# Altium footprint library ZMBo Footprint Library.PcbLib: 50 footprints (part 3 of 4)
Each footprint in its own frame and in the unit in brackets; x right, y up, seen from the top. Pads: shape width x height; smd on the part's side, far side on the other; paste and mask are expansions set on the pad; w line width, h text height; cw(c..) or ccw(c..) is an arc to the next point about the centre after c.
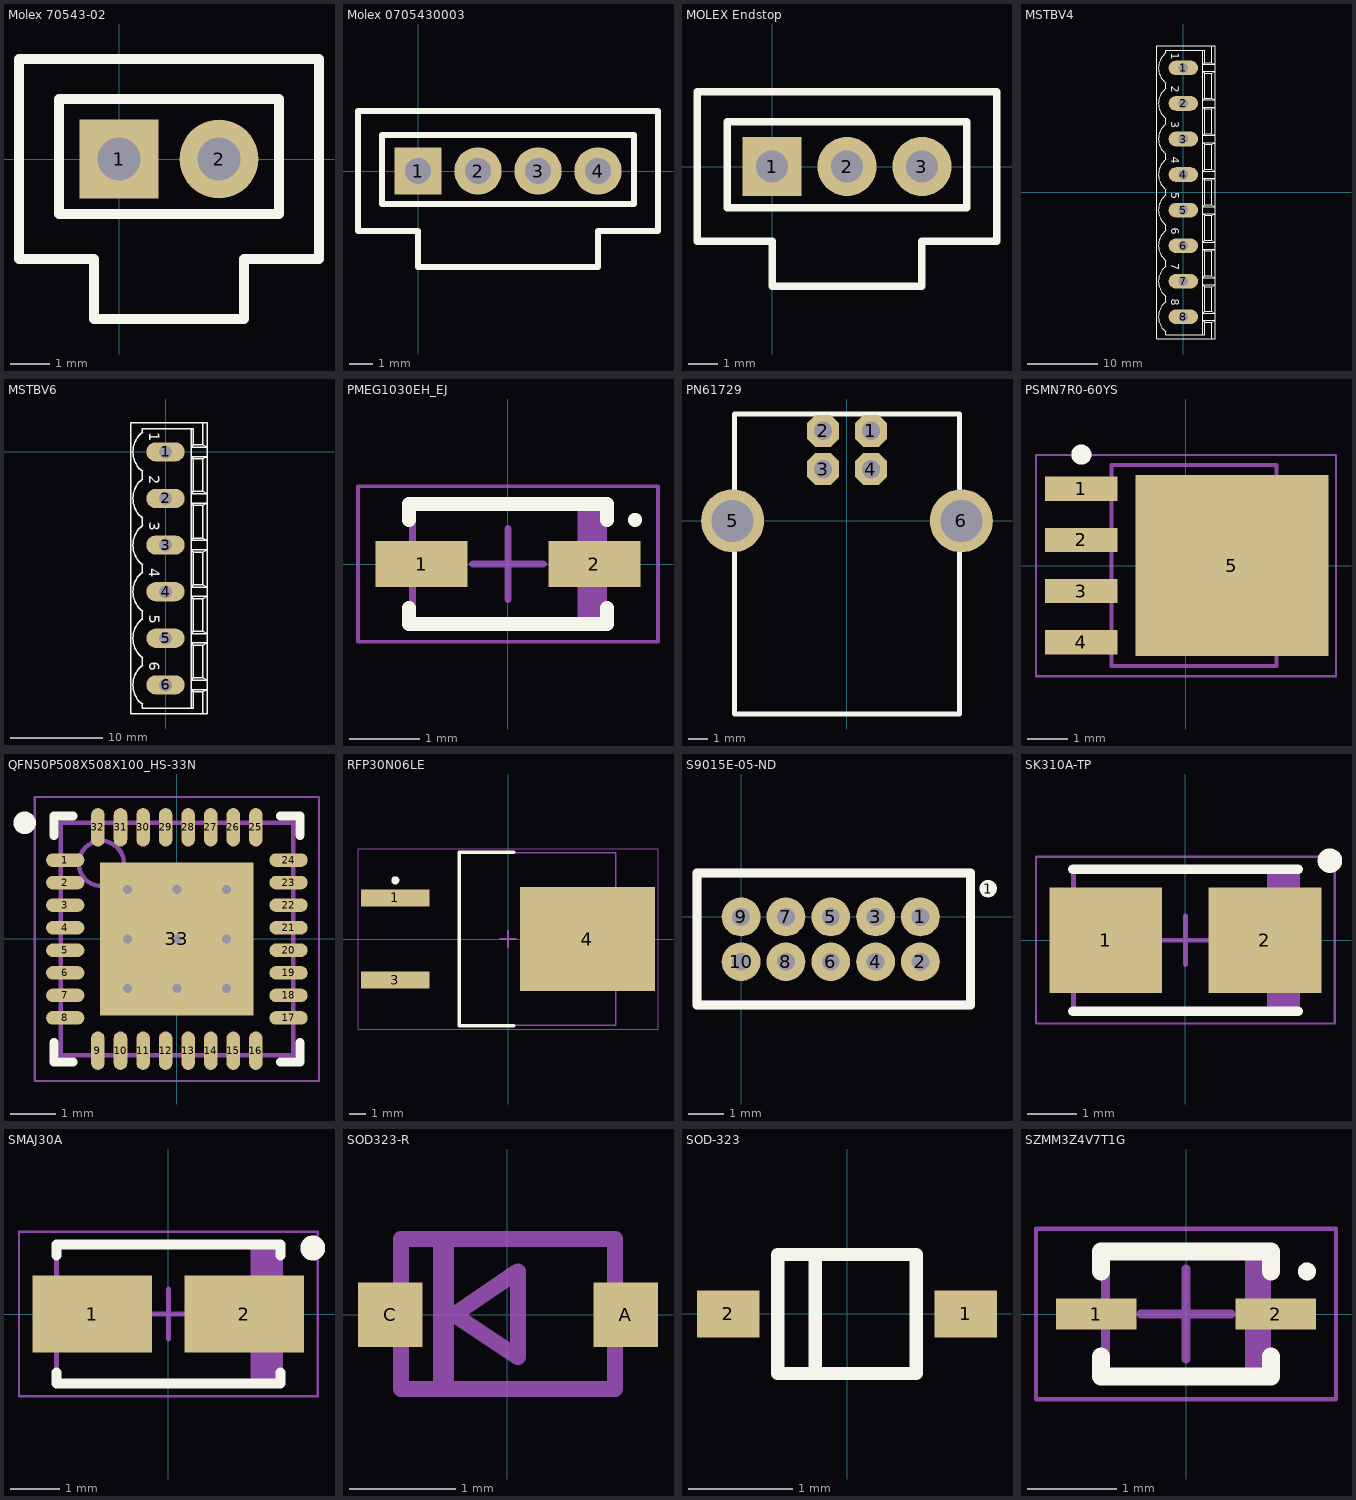
[diagram p2: the footprints below, top view; thin cyan lines are the x and y axes]

## Molex 70543-02 [mm]
pads (2):
  rect 2x2 hole 1.09: 1(0,0)
  round 2 hole 1.09: 2(2.54,0)
Top Overlay:
  lines w0.254: -2.54,-2.54 -2.54,2.54 5.08,2.54 5.08,-2.54 3.175,-2.54 3.175,-4.064 -0.635,-4.064 -0.635,-2.54 -2.54,-2.54 ; -1.524,-1.397 -1.524,-1.27 -1.524,1.524 4.064,1.524 4.064,-1.397 -1.397,-1.397 -1.524,-1.397

## Molex 0705430003 [mm] "4 pin connector"
pads (4):
  rect 2x2 hole 1.09: 1(0,0)
  round 2 hole 1.09: 2(2.54,0) 3(5.08,0) 4(7.62,0)
Top Overlay:
  lines w0.254: -2.54,-2.54 0,-2.54 0,-4.064 7.62,-4.064 7.62,-2.54 10.16,-2.54 10.16,2.54 -2.54,2.54 -2.54,-2.54 ; -1.524,-1.397 -1.397,-1.397 9.144,-1.397 9.144,1.524 -1.524,1.524 -1.524,-1.27 -1.524,-1.397

## MOLEX Endstop [mm]
pads (3):
  rect 2x2 hole 1.09: 1(0,0)
  round 2 hole 1.09: 2(2.54,0) 3(5.08,0)
Top Overlay:
  lines w0.254: -2.54,-2.54 0,-2.54 0,-4.064 5.08,-4.064 5.08,-2.54 7.62,-2.54 7.62,2.54 -2.54,2.54 -2.54,-2.54 ; -1.524,-1.397 -1.397,-1.397 6.604,-1.397 6.604,1.524 -1.524,1.524 -1.524,-1.27 -1.524,-1.397

## MSTBV4 [mil]
pads (8):
  oval 165x82.5 hole 55: 1(0,700) 2(0,500) 3(0,300) 4(0,100) 5(0,-100) 6(0,-300) 7(0,-500) 8(0,-700)
Top Overlay:
  drawing of 151 lines, arcs and shapes, not listed
  text "8" at -85,-600 h77.5
  text "7" at -85,-400 h77.5
  text "6" at -85,-200 h77.5
  text "5" at -85,0 h77.5
  text "1" at -85,785 h77.5
  text "2" at -85,600 h77.5
  text "3" at -85,400 h77.5
  text "4" at -85,200 h77.5
Mechanical 16:
  lines w6: -25,-725 -25,-675 ; -25,-725 25,-675 ; -25,-725 25,-725 ; -25,-675 25,-725 ; -25,-675 25,-675 ; -25,-525 -25,-475 ; -25,-525 25,-475 ; -25,-525 25,-525 ; -25,-475 25,-525 ; -25,-475 25,-475 ; -25,-325 25,-275 ; -25,-325 25,-325 ; -25,-325 -25,-275 ; -25,-275 25,-325 ; -25,-275 25,-275 ; -25,-125 25,-75 ; -25,-125 25,-125 ; -25,-125 -25,-75 ; -25,-75 25,-125 ; -25,-75 25,-75 ; -25,75 25,75 ; -25,75 25,125 ; -25,75 -25,125 ; -25,125 25,125 ; -25,125 25,75 ; -25,275 -25,325 ; -25,275 25,275 ; -25,275 25,325 ; -25,325 25,325 ; -25,325 25,275 ; -25,475 -25,525 ; -25,475 25,475 ; -25,475 25,525 ; -25,525 25,525 ; -25,525 25,475 ; -25,675 -25,725 ; -25,675 25,675 ; -25,675 25,725 ; -25,725 25,725 ; -25,725 25,675 ; 25,-725 25,-675 ; 25,-525 25,-475 ; 25,-325 25,-275 ; 25,-125 25,-75 ; 25,75 25,125 ; 25,275 25,325 ; 25,475 25,525 ; 25,675 25,725
3D body: height 472.44, standoff 0, extent -150,-825 180,825

## MSTBV6 [mil]
pads (6):
  oval 165x82.5 hole 55: 1(0,0) 2(0,-200) 3(0,-400) 4(0,-600) 5(0,-800) 6(0,-1000)
Top Overlay:
  lines w6: -100,-1083 -100,-1100 110,-1100 ; -100,-915 -100,-885 ; -100,-715 -100,-685 ; -100,-515 -100,-485 ; -100,-315 -100,-285 ; -100,-115 -100,-85 ; -100,83 -100,100 110,100 ; -98,-1084 cw(c-35,-1000) -140,-1000 cw(c-35,-1000) -98,-916 ; -98,-884 cw(c-35,-800) -140,-800 cw(c-35,-800) -98,-716 ; -98,-684 cw(c-35,-600) -140,-600 cw(c-35,-600) -98,-516 ; -98,-484 cw(c-35,-400) -140,-400 cw(c-35,-400) -98,-316 ; -98,-284 cw(c-35,-200) -140,-200 cw(c-35,-200) -98,-116 ; -98,-84 cw(c-35,0) -140,0 cw(c-35,0) -98,84 ; 110,-1100 120,-1100 120,-1030 ; 110,-1100 110,-1020 ; 110,-1020 120,-1030 ; 110,-1020 180,-1020 ; 110,-1020 110,-980 ; 110,-980 120,-970 ; 110,-980 180,-980 ; 110,-980 110,-820 ; 110,-820 120,-830 ; 110,-820 180,-820 ; 110,-820 110,-780 ; 110,-780 120,-770 ; 110,-780 180,-780 ; 110,-780 110,-620 ; 110,-620 120,-630 ; 110,-620 180,-620 ; 110,-620 110,-580 ; 110,-580 110,-420 ; 110,-580 180,-580 ; 110,-580 120,-570 ; 110,-420 110,-380 ; 110,-420 180,-420 ; 110,-420 120,-430 ; 110,-380 110,-220 ; 110,-380 180,-380 ; 110,-380 120,-370 ; 110,-220 110,-180 ; 110,-220 180,-220 ; 110,-220 120,-230 ; 110,-180 110,-20 ; 110,-180 180,-180 ; 110,-180 120,-170 ; 110,-20 110,20 ; 110,-20 180,-20 ; 110,-20 120,-30 ; 110,20 110,100 ; 110,20 180,20 ; 110,20 120,30 ; 110,100 120,100 120,30 ; 120,-1030 160,-1030 ; 120,-970 120,-830 ; 120,-970 160,-970 ; 120,-830 160,-830 ; 120,-770 160,-770 ; 120,-770 120,-630 ; 120,-630 160,-630 ; 120,-570 120,-430 ; 120,-570 160,-570 ; 120,-430 160,-430 ; 120,-370 160,-370 ; 120,-370 120,-230 ; 120,-230 160,-230 ; 120,-170 120,-30 ; 120,-170 160,-170 ; 120,-30 160,-30 ; 120,30 160,30 ; 160,-1125 -150,-1125 -150,-840 -150,125 160,125 ; 160,-1125 180,-1125 180,-1020 ; 160,-1125 160,-1030 ; 160,-1030 180,-1020 ; 160,-970 180,-980 ; 160,-970 160,-830 ; 160,-830 180,-820 ; 160,-770 180,-780 ; 160,-770 160,-630 ; 160,-630 180,-620 ; 160,-570 160,-430 ; 160,-570 180,-580 ; 160,-430 180,-420 ; 160,-370 160,-230 ; 160,-370 180,-380 ; 160,-230 180,-220 ; 160,-170 160,-30 ; 160,-170 180,-180 ; 160,-30 180,-20 ; 160,30 160,125 ; 160,30 180,20 ; 160,125 180,125 180,20 ; 180,-1020 180,-980 ; 180,-980 180,-820 ; 180,-820 180,-780 ; 180,-780 180,-620 ; 180,-620 180,-580 ; 180,-580 180,-420 ; 180,-420 180,-380 ; 180,-380 180,-220 ; 180,-220 180,-180 ; 180,-180 180,-20 ; 180,-20 180,20
  text "6" at -85,-900 h77.5
  text "5" at -85,-700 h77.5
  text "1" at -85,85 h77.5
  text "2" at -85,-100 h77.5
  text "3" at -85,-300 h77.5
  text "4" at -85,-500 h77.5
Mechanical 16:
  lines w6: -25,-1025 25,-975 ; -25,-1025 25,-1025 ; -25,-1025 -25,-975 ; -25,-975 25,-1025 ; -25,-975 25,-975 ; -25,-825 25,-775 ; -25,-825 25,-825 ; -25,-825 -25,-775 ; -25,-775 25,-825 ; -25,-775 25,-775 ; -25,-625 25,-625 ; -25,-625 25,-575 ; -25,-625 -25,-575 ; -25,-575 25,-575 ; -25,-575 25,-625 ; -25,-425 -25,-375 ; -25,-425 25,-425 ; -25,-425 25,-375 ; -25,-375 25,-375 ; -25,-375 25,-425 ; -25,-225 -25,-175 ; -25,-225 25,-225 ; -25,-225 25,-175 ; -25,-175 25,-175 ; -25,-175 25,-225 ; -25,-25 -25,25 ; -25,-25 25,-25 ; -25,-25 25,25 ; -25,25 25,25 ; -25,25 25,-25 ; 25,-1025 25,-975 ; 25,-825 25,-775 ; 25,-625 25,-575 ; 25,-425 25,-375 ; 25,-225 25,-175 ; 25,-25 25,25
3D body: height 472.44, standoff 0, extent -150,-1125 180,125

## PMEG1030EH_EJ [mm] "Molded Diode, 2-Leads, Body 2.60x1.60mm, IPC Medium Density"
height 1.2
pads (2):
  rect 1.3x0.65 smd: 1(-1.225,0) 2(1.225,0)
Top Overlay:
  circle w0.1: c1.8,0.625 r0.05
  lines w0.2: -1.4,-0.625 -1.4,-0.85 1.4,-0.85 1.4,-0.625 ; -1.4,0.625 -1.4,0.85 1.4,0.85 1.4,0.625
Mechanical 13:
  rectangle: 0.987,-0.85 1.35,0.85
  lines w0.1: -1.35,-0.85 -1.35,0.85 1.35,0.85 1.35,-0.85 -1.35,-0.85
Mechanical 15:
  lines w0.05: -2.125,-1.1 -2.125,1.1 2.125,1.1 2.125,-1.1 -2.125,-1.1
  lines w0.1: -0.5,0 0.5,0 ; 0,-0.5 0,0.5
3D body: height 1.2, standoff 0, extent -1.35,-0.85 1.35,0.85

## PN61729 [mil]
pads (6):
  oct 66x66 hole 38: 1(50,186) 2(-49.21,186) 3(-49.21,107) 4(50,107)
  round 130.5 hole 87: 5(-236.22,0) 6(237,0)
Top Overlay:
  lines w10: -232.28,-399.61 233,-399.61 233,221 -232.28,221 -232.28,-399.61
3D body: height 405.51, standoff 27.56, extent -237.28,-404.61 238,226

## PSMN7R0-60YS [mm] "TO, 5-Pads, Body 5.15x5.86mm (max), IPC Medium Density"
height 1.2
pads (5):
  rect 1.8x0.6 smd: 1(-2.6,1.905) 2(-2.6,0.635) 3(-2.6,-0.635) 4(-2.6,-1.905)
  rect 4.8x4.5 smd: 5(1.14,0)
Top Overlay:
  circle w0.25: c-2.6,2.755 r0.125
Mechanical 13:
  lines w0.1: -1.85,-2.5 -1.85,2.5 2.25,2.5 2.25,-2.5 -1.85,-2.5
Mechanical 15:
  lines w0.05: -3.725,-2.75 -3.725,2.75 3.725,2.75 3.725,-2.75 -3.725,-2.75
  lines w0.1: -0.5,0 0.5,0 ; 0,-0.5 0,0.5
3D body: height 1.2, standoff 0, extent -1.85,-2.5 2.25,2.5

## QFN50P508X508X100_HS-33N [mm] "QFN, 32-Leads, Body 5.08x5.08mm, Pitch 0.50mm, Thermal Pad 3.40x3.40mm, IPC Medium Density"
height 1
pads (33):
  oval 0.85x0.3 smd: 1(-2.475,1.75) 2(-2.475,1.25) 3(-2.475,0.75) 4(-2.475,0.25) 5(-2.475,-0.25) 6(-2.475,-0.75) 7(-2.475,-1.25) 8(-2.475,-1.75) 17(2.475,-1.75) 18(2.475,-1.25) 19(2.475,-0.75) 20(2.475,-0.25) 21(2.475,0.25) 22(2.475,0.75) 23(2.475,1.25) 24(2.475,1.75)
  oval 0.3x0.85 smd: 9(-1.75,-2.475) 10(-1.25,-2.475) 11(-0.75,-2.475) 12(-0.25,-2.475) 13(0.25,-2.475) 14(0.75,-2.475) 15(1.25,-2.475) 16(1.75,-2.475) 25(1.75,2.475) 26(1.25,2.475) 27(0.75,2.475) 28(0.25,2.475) 29(-0.25,2.475) 30(-0.75,2.475) 31(-1.25,2.475) 32(-1.75,2.475)
  rect 3.4x3.4 smd: 33(0,0)
via -1.1,1.1 diameter 0.5 hole 0.2
via 0,1.1 diameter 0.5 hole 0.2
via 1.1,1.1 diameter 0.5 hole 0.2
via -1.1,0 diameter 0.5 hole 0.2
via 0,0 diameter 0.5 hole 0.2
via 1.1,0 diameter 0.5 hole 0.2
via -1.1,-1.1 diameter 0.5 hole 0.2
via 0,-1.1 diameter 0.5 hole 0.2
via 1.1,-1.1 diameter 0.5 hole 0.2
Top Overlay:
  circle w0.25: c-3.375,2.575 r0.125
  lines w0.2: -2.725,-2.3 -2.725,-2.725 -2.3,-2.725 ; -2.725,2.3 -2.725,2.725 -2.3,2.725 ; 2.3,-2.725 2.725,-2.725 2.725,-2.3 ; 2.3,2.725 2.725,2.725 2.725,2.3
Mechanical 13:
  circle w0.1: c-1.675,1.675 r0.5
  lines w0.1: -2.575,-2.575 -2.575,2.575 2.575,2.575 2.575,-2.575 -2.575,-2.575
Mechanical 15:
  lines w0.05: -3.15,-3.15 -3.15,3.15 3.15,3.15 3.15,-3.15 -3.15,-3.15
  lines w0.1: -0.5,0 0.5,0 ; 0,-0.5 0,0.5
3D body: height 1, standoff 0.08, extent -2.575,-2.575 2.575,2.575

## RFP30N06LE [mm] "D2-PAK, 3-Pads, Body 7.93x8.69mm (max), IPC Medium Density"
height 4.83
pads (3):
  rect 4.2x1.05 smd: 1(-6.95,2.54) 3(-6.95,-2.54)
  rect 8.3x6.4 smd: 4(4.9,0)
Top Overlay:
  circle w0.25: c-6.95,3.615 r0.125
  lines w0.2: 0.35,-5.35 -3,-5.35 -3,5.35 0.35,5.35
Mechanical 13:
  lines w0.1: -3,-5.325 -3,5.325 6.65,5.325 6.65,-5.325 -3,-5.325
Mechanical 15:
  lines w0.05: -9.25,-5.575 -9.25,5.575 9.25,5.575 9.25,-5.575 -9.25,-5.575
  lines w0.1: -0.5,0 0.5,0 ; 0,-0.5 0,0.5
3D body: height 4.83, standoff 0, extent -3,-5.325 6.65,5.325

## S9015E-05-ND [mm] "10 Pin Cortex JTAG Debug Header"
pads (11):
  round 1.1 hole 0.508: 1(5.08,0) 2(5.08,-1.27) 3(3.81,0) 4(3.81,-1.27) 5(2.54,0) 6(2.54,-1.27) 7(1.27,0) 8(1.27,-1.27) 9(0,0) 10(0,-1.27)
  round 0.5 on Top Overlay: 1(7,0.8)
Top Overlay:
  lines w0.254: -1.25,-2.5 -1.25,1.25 6.5,1.25 6.5,-2.5 -1.25,-2.5
Mechanical 13:
  lines w0.254: -1.25,-2.5 -1.25,1.25 6.5,1.25 6.5,-2.5 -1.25,-2.5

## SK310A-TP [mm] "Molded Diode, 2-Leads, Body 4.31x2.69mm, IPC Medium Density"
height 2.95
pads (2):
  rect 2.3x2.15 smd: 1(-1.625,0) 2(1.625,0)
Top Overlay:
  circle w0.25: c2.95,1.625 r0.125
  lines w0.2: -2.3,-1.45 2.3,-1.45 ; -2.3,1.45 2.3,1.45
Mechanical 13:
  rectangle: 1.67,-1.42 2.285,1.42
  lines w0.1: -2.285,-1.42 -2.285,1.42 2.285,1.42 2.285,-1.42 -2.285,-1.42
Mechanical 15:
  lines w0.05: -3.05,-1.7 -3.05,1.7 3.05,1.7 3.05,-1.7 -3.05,-1.7
  lines w0.1: -0.5,0 0.5,0 ; 0,-0.5 0,0.5
3D body: height 2.95, standoff 0, extent -2.285,-1.42 2.285,1.42

## SMAJ30A [mm] "Molded Diode, 2-Leads, Body 4.25x2.67mm, IPC Medium Density"
height 2.29
pads (2):
  rect 2.4x1.55 smd: 1(-1.525,0) 2(1.525,0)
Top Overlay:
  circle w0.25: c2.9,1.325 r0.125
  lines w0.2: -2.25,-1.175 -2.25,-1.4 2.25,-1.4 2.25,-1.175 ; -2.25,1.175 -2.25,1.4 2.25,1.4 2.25,1.175
Mechanical 13:
  rectangle: 1.645,-1.395 2.25,1.395
  lines w0.1: -2.25,-1.395 -2.25,1.395 2.25,1.395 2.25,-1.395 -2.25,-1.395
Mechanical 15:
  lines w0.05: -3,-1.65 -3,1.65 3,1.65 3,-1.65 -3,-1.65
  lines w0.1: -0.5,0 0.5,0 ; 0,-0.5 0,0.5
3D body: height 2.29, standoff 0, extent -2.25,-1.395 2.25,1.395

## SOD323-R [mil]
pads (2):
  rect 24x24 smd: A(44,0) C(-43.31,0)
Mechanical 16:
  rectangle: -27.56,-27.56 -19.69,28
  lines w6: -39.37,-27.56 40,-27.56 40,28 -39.37,28 -39.37,-27.56 ; -19.69,0 4,16 4,-15.75 -19.69,0
3D body: height 27.56, standoff 0, extent -42.37,-30.56 43,31
3D body: height 15.75, standoff 0, extent -50,-5 -35,5
3D body: height 15.75, standoff 0, extent 35,-5 50,5

## SOD-323 [mm]
pads (2):
  rect 0.6x0.45 smd: 1(1.143,0) 2(-1.143,0)
Top Overlay:
  lines w0.127: -0.305,-0.559 -0.305,0.559 ; -0.666,-0.573 -0.666,0.573 0.666,0.573 0.666,-0.573 -0.666,-0.573

## SZMM3Z4V7T1G [mm] "Molded Diode, 2-Leads, Body 1.70x1.25mm, IPC Medium Density"
height 1
pads (2):
  rect 0.9x0.35 smd: 1(-1,0) 2(1,0)
Top Overlay:
  circle w0.1: c1.35,0.475 r0.05
  lines w0.2: -0.95,-0.475 -0.95,-0.7 0.95,-0.7 0.95,-0.475 ; -0.95,0.475 -0.95,0.7 0.95,0.7 0.95,0.475
Mechanical 13:
  rectangle: 0.658,-0.675 0.9,0.675
  lines w0.1: -0.9,-0.675 0.9,-0.675 0.9,0.675 -0.9,0.675 -0.9,-0.675
Mechanical 15:
  lines w0.05: -1.675,-0.95 1.675,-0.95 1.675,0.95 -1.675,0.95 -1.675,-0.95
  lines w0.1: -0.5,0 0.5,0 ; 0,-0.5 0,0.5
3D body: height 1, standoff 0, extent -0.9,-0.675 0.9,0.675